# Altium footprint library CC0402JRNPO9BN101.PcbLib: 3 footprints
Each footprint in its own frame and in the unit in brackets; x right, y up, seen from the top. Pads: shape width x height; smd on the part's side, far side on the other; paste and mask are expansions set on the pad; w line width, h text height; cw(c..) or ccw(c..) is an arc to the next point about the centre after c.
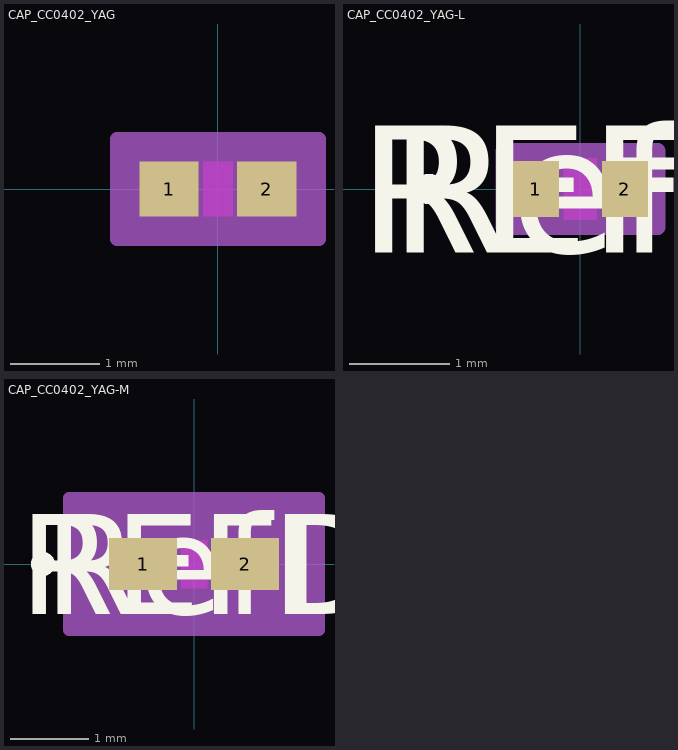
[diagram p0: the footprints below, top view; thin cyan lines are the x and y axes]

## CAP_CC0402_YAG [mil]
pads (2):
  rect 26x24 smd paste+0 mask+0: 1(-21.5,0) 2(21.5,0)
Top Layer keep-out:
  region: -6.5,-10 -6.5,10 6.5,10 6.5,-10
Top Overlay:
Keep-Out Layer:
  region: -6.5,-12 -6.5,12 6.5,12 6.5,-12
Mechanical 13:
  lines w1: -20.5,-12 -20.5,12 ; -20.5,-12 20.5,-12 ; -20.5,-12 -8.5,-12 -8.5,12 -20.5,12 ; -20.5,-12 -20.5,12 ; -20.5,12 20.5,12 ; 20.5,-12 20.5,12 ; 20.5,-12 20.5,12 ; 20.5,-12 8.5,-12 8.5,12 20.5,12
Mechanical 15:
  region: 44.5,-22 -44.5,-22 -44.5,22 44.5,22
  lines w6: -44.5,-22 44.5,-22 44.5,22 -44.5,22 -44.5,-22
3D body "CAP_CC0402_YAG.step": height 22.01, standoff 0, extent -20.51,-12.01 20.51,12.01

## CAP_CC0402_YAG-L [mil]
pads (2):
  rect 18x22 smd paste+0 mask+0: 1(-17.5,0) 2(17.5,0)
Top Layer keep-out:
  region: -6.5,-10 -6.5,10 6.5,10 6.5,-10
Top Overlay:
  circle w6: c-59.5,0 r3
  text "RefDes" at -75,-25 h50
  text "REFDES" at -87.5,-25 h50
Keep-Out Layer:
  region: -6.5,-12 -6.5,12 6.5,12 6.5,-12
Mechanical 13:
  circle w0: c-12.5,0 r3
  lines w1: -20.5,-12 -20.5,12 ; -20.5,-12 -8.5,-12 -8.5,12 -20.5,12 ; -20.5,-12 20.5,-12 ; -20.5,-12 -20.5,12 ; -20.5,12 20.5,12 ; 20.5,-12 8.5,-12 8.5,12 20.5,12 ; 20.5,-12 20.5,12 ; 20.5,-12 20.5,12
  text "RefDes2" at -87.5,-25 h50
Mechanical 15:
  region: 30.5,-15 -30.5,-15 -30.5,15 30.5,15
  lines w6: -30.5,-15 -30.5,15 30.5,15 30.5,-15 -30.5,-15
3D body "CAP_CC0402_YAG.step": height 22.01, standoff 0, extent -20.51,-12.01 20.51,12.01

## CAP_CC0402_YAG-M [mil]
pads (2):
  rect 34x26 smd paste+0 mask+0: 1(-25.5,0) 2(25.5,0)
Top Layer keep-out:
  region: -6.5,-10 -6.5,10 6.5,10 6.5,-10
Top Overlay:
  circle w6: c-75.5,0 r3
  text "RefDes" at -75,-25 h50
  text "REFDES" at -87.5,-25 h50
Keep-Out Layer:
  region: -6.5,-12 -6.5,12 6.5,12 6.5,-12
Mechanical 13:
  circle w0: c-20.5,0 r3
  lines w1: -20.5,-12 -20.5,12 ; -20.5,-12 -8.5,-12 -8.5,12 -20.5,12 ; -20.5,-12 20.5,-12 ; -20.5,-12 -20.5,12 ; -20.5,12 20.5,12 ; 20.5,-12 8.5,-12 8.5,12 20.5,12 ; 20.5,-12 20.5,12 ; 20.5,-12 20.5,12
  text "RefDes2" at -87.5,-25 h50
Mechanical 15:
  region: 62.5,-33 -62.5,-33 -62.5,33 62.5,33
  lines w6: -62.5,-33 -62.5,33 62.5,33 62.5,-33 -62.5,-33
3D body "CAP_CC0402_YAG.step": height 22.01, standoff 0, extent -20.51,-12.01 20.51,12.01